# EAGLE library part R_38V (library 31813 Neutron Readout PCB)
SMT resistor pack 4 resistors, Pabnasonic 38V, Rohm MNR14
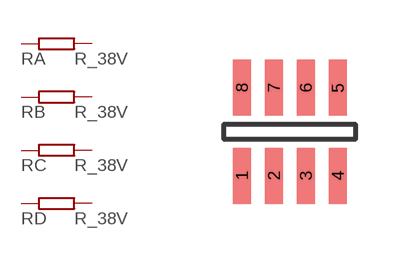
[diagram p4: symbol with the pads of RNET-4R-38V; footprint RNET-4R-38V]

Designator prefix R; gates A=R1NV-2 B=R1NV-2 C=R1NV-2 D=R1NV-2

## R_38V  [RNET-4R-38V]
1  A:1  pas
2  B:1  pas
3  C:1  pas
4  D:1  pas
5  D:2  pas
6  C:2  pas
7  B:2  pas
8  A:2  pas

## Footprint RNET-4R-38V (pad centres in mm)
smd 0.45 x 1.4: 1 -1.2,-1.1; 2 -0.4,-1.1; 3 0.4,-1.1; 4 1.2,-1.1; 5 1.2,1.1; 6 0.4,1.1; 7 -0.4,1.1; 8 -1.2,1.1